# EAGLE library part BFTC-415+ (library BFTC-415+)
Ceramic Bandpass Filter 50 330 to 500 MHz Source: Datasheet <https://www.minicircuits.com/pdfs/BFTC-415 .pdf>
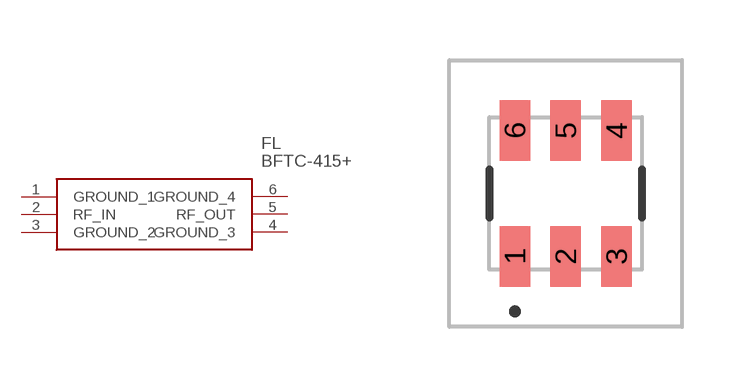
[diagram p0: symbol with the pads of BFTC415; footprint BFTC415]

Designator prefix FL

## BFTC-415+ (Description: Ceramic Bandpass Filter 50 330 to 500 MHz; Height: 1.5mm; Manufacturer_Name: Mini-Circuits; Manufacturer_Part_Number: BFTC-415+)  [BFTC415]
1  GROUND_1
2  RF_IN
3  GROUND_2
4  GROUND_3
5  RF_OUT
6  GROUND_4

## Footprint BFTC415 (pad centres in mm)
CASE STYLE: FR933-1
smd 0.76 x 1.52: 1 -1.27,-1.575; 2 0,-1.575; 3 1.27,-1.575; 4 1.27,1.575; 5 0,1.575; 6 -1.27,1.575